# Altium footprint library 2016-02-19_06-32-22.PcbLib: 11 footprints
Each footprint in its own frame and in the unit in brackets; x right, y up, seen from the top. Pads: shape width x height; smd on the part's side, far side on the other; paste and mask are expansions set on the pad; w line width, h text height; cw(c..) or ccw(c..) is an arc to the next point about the centre after c.
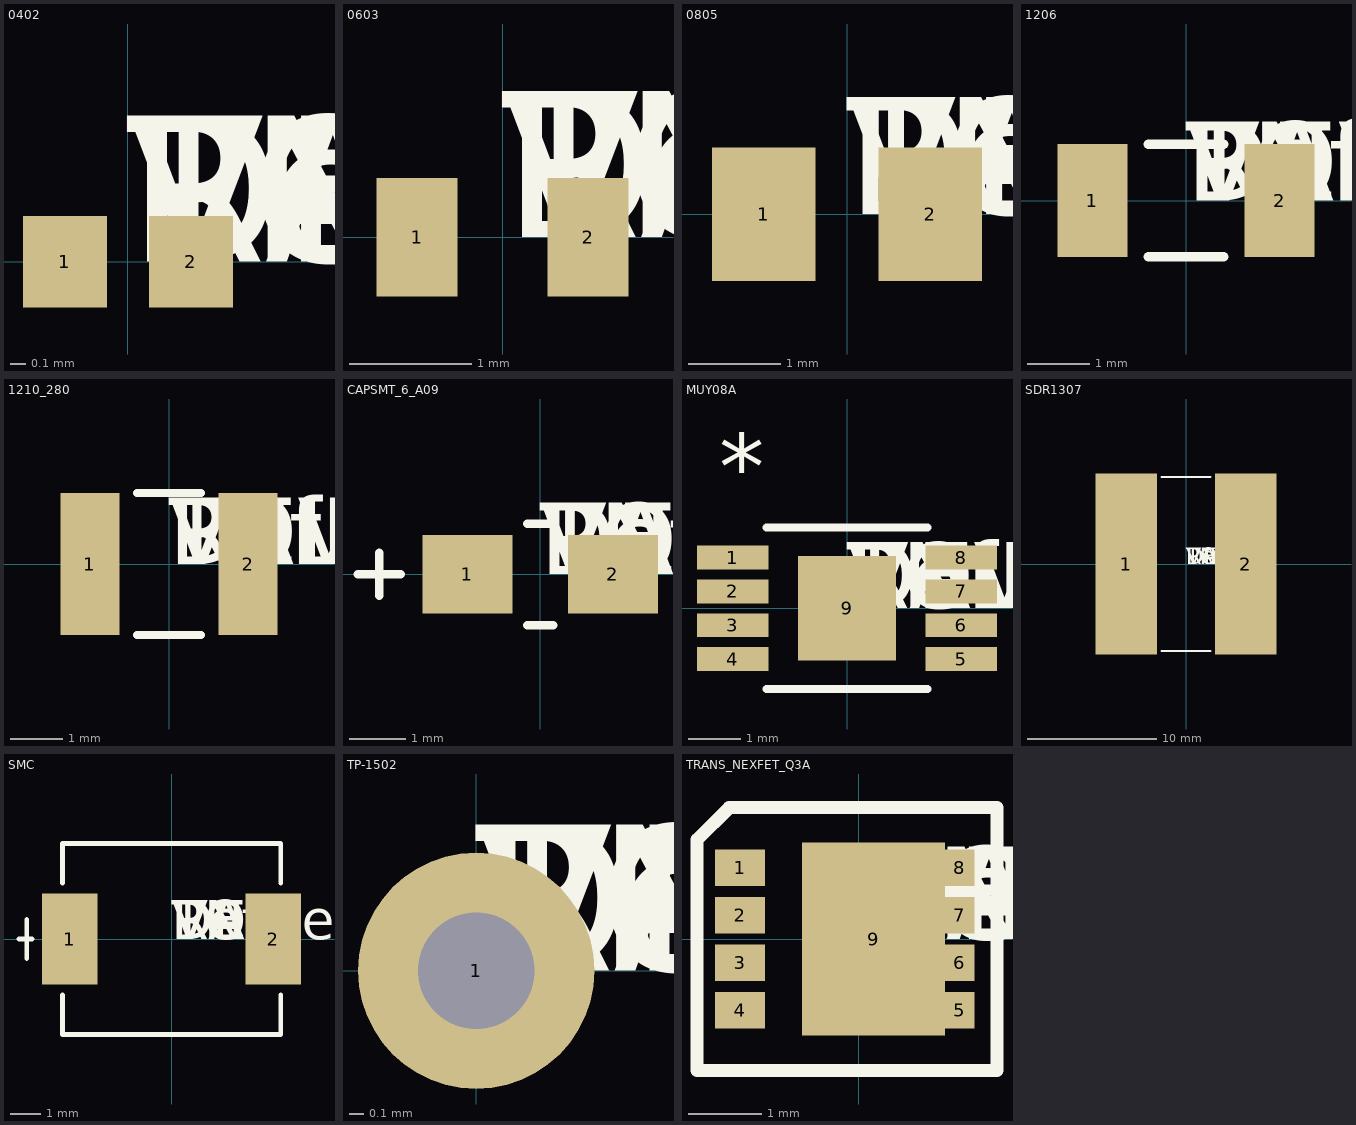
[diagram p0: the footprints below, top view; thin cyan lines are the x and y axes]

## 0402 [mil]
pads (2):
  rect 22x24 smd: 1(-16.5,0) 2(16.5,0)
Top Overlay:
  text "RefDes" at 0,0 h50
  text "DEV" at 0,0 h50
  text "PN" at 0,0 h50
  text "DEV" at 0,0 h50
  text "VAL" at 0,0 h50
  text "TOL" at 0,0 h50

## 0603 [mil]
pads (2):
  rect 26x38 smd: 1(-27.5,0) 2(27.5,0)
Top Overlay:
  text "RefDes" at 0,0 h50
  text "DEV" at 0,0 h50
  text "PN" at 0,0 h50
  text "DEV" at 0,0 h50
  text "VAL" at 0,0 h50
  text "TOL" at 0,0 h50

## 0805 [mil]
pads (2):
  rect 44x57 smd: 1(-35.5,0) 2(35.5,0)
Top Overlay:
  text "RefDes" at 0,0 h50
  text "DEV" at 0,0 h50
  text "PN" at 0,0 h50
  text "DEV" at 0,0 h50
  text "VAL" at 0,0 h50
  text "TOL" at 0,0 h50

## 1206 [mil]
pads (2):
  rect 44x71 smd: 1(-59,0) 2(59,0)
Top Overlay:
  lines w6: -23.9,-35.5 23.9,-35.5 ; -23.9,35.5 23.9,35.5
  text "RefDes" at 0,0 h50
  text "DEV" at 0,0 h50
  text "PN" at 0,0 h50
  text "DEV" at 0,0 h50
  text "VAL" at 0,0 h50
  text "TOL" at 0,0 h50

## 1210_280 [mil]
pads (2):
  rect 44x106 smd: 1(-59,0) 2(59,0)
Top Overlay:
  lines w6: -23.9,-53 23.9,-53 ; -23.9,53 23.9,53
  text "RefDes" at 0,0 h50
  text "DEV" at 0,0 h50
  text "PN" at 0,0 h50
  text "DEV" at 0,0 h50
  text "VAL" at 0,0 h50
  text "TOL" at 0,0 h50

## CAPSMT_6_A09 [mil]
pads (2):
  rect 63x55 smd: 1(-51,0) 2(51,0)
Top Overlay:
  lines w6: -127.5,0 -97.5,0 ; -112.5,-15 -112.5,15 ; -9.13,-35.5 9.13,-35.5 ; -9.13,35.5 9.13,35.5
  text "RefDes" at 0,0 h50
  text "DEV" at 0,0 h50
  text "PN" at 0,0 h50
  text "DEV" at 0,0 h50
  text "VAL" at 0,0 h50
  text "TOL" at 0,0 h50

## MUY08A [mil]
pads (9):
  rect 54x18 smd mask+4: 1(-86.5,38.39) 2(-86.5,12.8) 3(-86.5,-12.8) 4(-86.5,-38.39) 5(86.5,-38.39) 6(86.5,-12.8) 7(86.5,12.8) 8(86.5,38.39)
  rect 74x79 smd: 9(0,0)
Top Overlay:
  lines w6: -61,-61 61,-61 ; -61,61 61,61
  text "*" at -96.5,82.39 h50
  text "RefDes" at 0,0 h50
  text "DEV" at 0,0 h50
  text "PN" at 0,0 h50
  text "DEV" at 0,0 h50
  text "VAL" at 0,0 h50
  text "TOL" at 0,0 h50

## SDR1307 [mil]
pads (2):
  rect 187x551 smd: 1(-182,0) 2(182,0)
Top Overlay:
  lines w6: -75.4,-266 75.4,-266 ; -75.4,266 75.4,266
  text "RefDes" at 0,0 h50
  text "DEV" at 0,0 h50
  text "PN" at 0,0 h50
  text "DEV" at 0,0 h50
  text "VAL" at 0,0 h50
  text "TOL" at 0,0 h50

## SMC [mil]
pads (2):
  rect 71x117 smd: 1(-130.5,0) 2(130.5,0)
Top Overlay:
  lines w6: -195.75,0 -179.1,0 ; -185.75,-25 -185.75,25 ; -140,-71.6 -140,-122.5 140,-122.5 140,-71.6 ; -140,71.6 -140,122.5 140,122.5 140,71.6
  text "RefDes" at 0,0 h50
  text "DEV" at 0,0 h50
  text "PN" at 0,0 h50
  text "DEV" at 0,0 h50
  text "VAL" at 0,0 h50
  text "TOL" at 0,0 h50

## TP-1502 [mil]
pads (1):
  round 65 / inner round 60 / far side round 65 hole 32: 1(0,0)
Top Overlay:
  text "RefDes" at 0,0 h50
  text "DEV" at 0,0 h50
  text "PN" at 0,0 h50
  text "DEV" at 0,0 h50
  text "VAL" at 0,0 h50
  text "TOL" at 0,0 h50

## TRANS_NEXFET_Q3A [mm]
pads (9):
  rect 0.68x0.5 smd paste-0.327 mask+0.076: 1(-1.625,0.975) 2(-1.625,0.325) 3(-1.625,-0.325) 4(-1.625,-0.975)
  rect 0.41x0.5 smd paste-0.237 mask+0.076: 5(1.385,-0.975) 6(1.385,-0.325) 7(1.385,0.325) 8(1.385,0.975)
  rect 1.96x2.65 smd paste-1.312 mask+0.076: 9(0.205,0)
Top Overlay:
  lines w0.178: -2.215,-1.8 -2.215,0.07 -2.215,1.36 -1.775,1.8 -0.315,1.8 1.895,1.8 1.895,0.01 1.895,-1.8 -0.255,-1.8 -2.215,-1.8
  text "RefDes" at 0,0 h1.27
  text "DEV" at 0,0 h1.27
  text "PN" at 0,0 h1.27
  text "DEV" at 0,0 h1.27
  text "VAL" at 0,0 h1.27
  text "TOL" at 0,0 h1.27
Top Paste:
  region: -0.655,-1.145 0.795,-1.145 0.795,-0.125 -0.655,-0.125
  region: -0.655,0.125 0.795,0.125 0.795,1.145 -0.655,1.145
  region: 1.025,1.145 1.025,0.805 1.475,0.805 1.475,1.145
  region: 1.025,0.495 1.025,0.155 1.475,0.155 1.475,0.495
  region: 1.025,-0.155 1.025,-0.495 1.475,-0.495 1.475,-0.155
  region: 1.025,-0.805 1.025,-1.145 1.475,-1.145 1.475,-0.805
  region: -1.85,-0.805 -1.85,-1.145 -1.4,-1.145 -1.4,-0.805
  region: -1.84,-0.155 -1.84,-0.495 -1.39,-0.495 -1.39,-0.155
  region: -1.85,0.495 -1.85,0.155 -1.4,0.155 -1.4,0.495
  region: -1.85,1.145 -1.85,0.805 -1.4,0.805 -1.4,1.145